# Altium schematic symbol library Компоненты.SchLib: 13 symbols
Pins are listed as number, name and electrical type; pins without a type are passive.

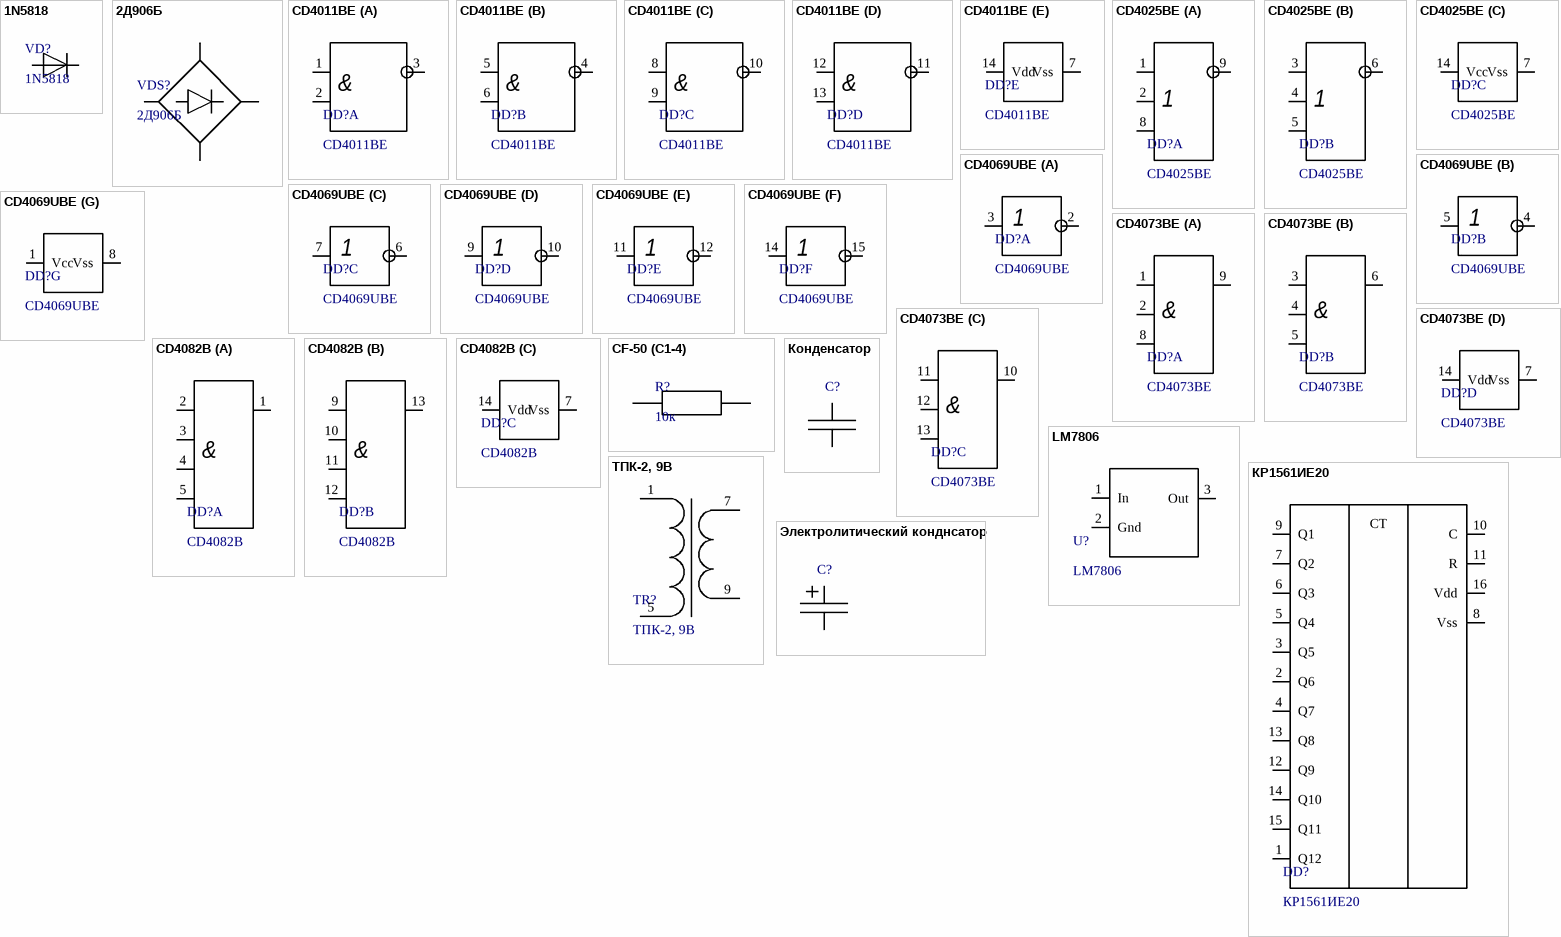
[diagram p0: symbols 1N5818 to Электролитический конднсатор]

## 1N5818
designator VD?
Диод
footprint 1N5818
pins: 1, 2

## 2Д906Б
designator VDS?
Диодный мост
footprint 2Д906Б
pins: 1, 2, 3, 4

## CD4011BE
designator DD?
2И-НЕ
footprint DIP-14 (DIP; 14 Leads; Row Spacing 7.62 mm; Pitch 2.54 mm)
part A pins: 1, 2, 3
part B pins: 4, 5, 6
part C pins: 8, 9, 10
part D pins: 11, 12, 13
part E pins: 7 Vss, 14 Vdd
part A text: &
part B text: &
part C text: &
part D text: &

## CD4025BE
designator DD?
3ИЛИ-НЕ
footprint DIP-14 (DIP; 14 Leads; Row Spacing 7.62 mm; Pitch 2.54 mm)
part A pins: 1, 2, 8, 9
part B pins: 3, 4, 5, 6
part C pins: 7 Vss, 14 Vсс

## CD4069UBE
designator DD?
Не
footprint DIP-16 (DIP; 16 Leads; Row Spacing 7.62 mm; Pitch 2.54 mm)
part A pins: 2, 3
part B pins: 4, 5
part C pins: 6, 7
part D pins: 9, 10
part E pins: 11, 12
part F pins: 14, 15
part G pins: 1 Vcc, 8 Vss

## CD4073BE
designator DD?
3И
footprint DIP-14 (DIP; 14 Leads; Row Spacing 7.62 mm; Pitch 2.54 mm)
part A pins: 1, 2, 8, 9
part B pins: 3, 4, 5, 6
part C pins: 10, 11, 12, 13
part D pins: 7 Vss, 14 Vdd
part A text: &
part B text: &
part C text: &

## CD4082B
designator DD?
4И
footprint DIP-14 (DIP; 14 Leads; Row Spacing 7.62 mm; Pitch 2.54 mm)
part A pins: 1, 2, 3, 4, 5
part B pins: 9, 10, 11, 12, 13
part C pins: 7 Vss, 14 Vdd
part A text: &
part B text: &

## CF-50 (С1-4)
designator R?, comment 10к
Резистор
footprint Резистор
pins: 1, 2

## LM7806
designator U?
Стабилизатор
footprint TO-220 (TO, Thru-Hole, Vertical, Heatsink Mounted; 3 In-Line Leads; Pitch 2.54 mm)
pins: 1 In, 2 Gnd, 3 Out

## Конденсатор
designator C?
footprint 9.1нФ
footprint 24нФ
footprint 160пФ
footprint 240нФ
pins: 1, 2

## КР1561ИЕ20
designator DD?
Счётчик
footprint DIP-16 (DIP; 16 Leads; Row Spacing 7.62 mm; Pitch 2.54 mm)
pins: 1 Q12, 2 Q6, 3 Q5, 4 Q7, 5 Q4, 6 Q3, 7 Q2, 8 Vss, 9 Q1, 10 C, 11 R, 12 Q9, 13 Q8, 14 Q10, 15 Q11, 16 Vdd
text: СТ

## ТПК-2, 9В
designator TR?
Трансформатор
footprint ТПК-2, 9В
pins: 1, 5, 7, 9

## Электролитический конднсатор
designator C?
footprint 12мкФ
footprint 1.2мкФ
pins: 1, 2